# EAGLE library part TEXAS_INSTRUMENTS-LED_DRIVER-TPIC2810_D_16 (library Module_ICs)
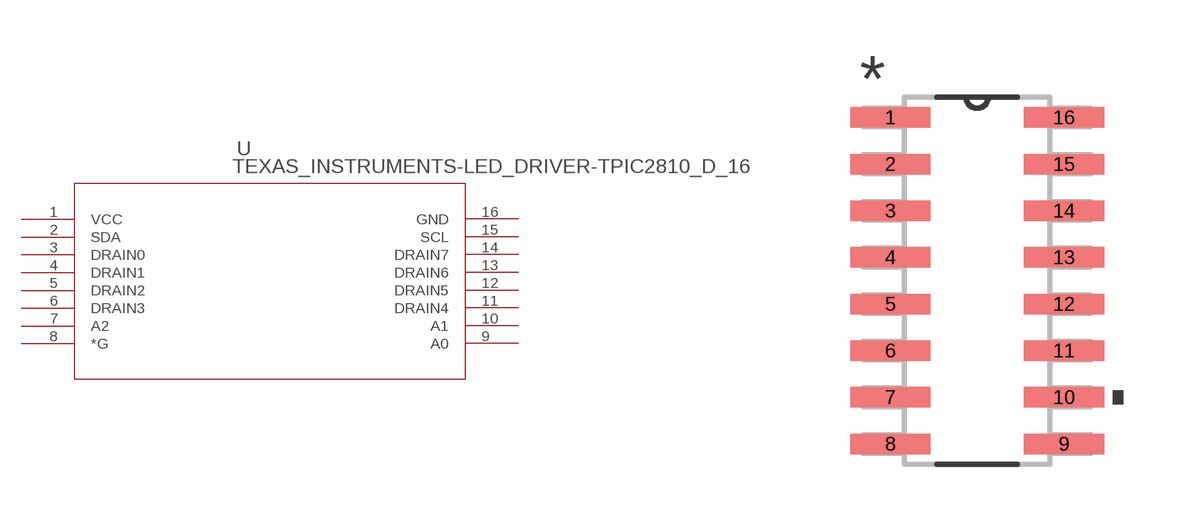
[diagram p12: symbol with the pads of TEXAS_INSTRUMENTS-LED_DRIVER-TPIC2810_D_16; footprint TEXAS_INSTRUMENTS-LED_DRIVER-TPIC2810_D_16]

Designator prefix U

## TEXAS_INSTRUMENTS-LED_DRIVER-TPIC2810_D_16 (DATASHEETURL: httpwww.ti.comlitgpnTPIC2810; FAMILY_NAME: POWERPLUS LOGIC; GENERIC_PART_NUMBER: TPIC2810; INDUSTRY_STD_PKG_TYPE: SOIC; MANUFACTURER: Texas Instruments; MANUFACTURER_PART_NUMBER: tpic2810_d_16; PACKAGE_DESIGNATOR: D; PIN_COUNT: 16; VENDOR: Texas Instruments)  [TEXAS_INSTRUMENTS-LED_DRIVER-TPIC2810_D_16]
1  VCC  pwr
2  SDA
3  DRAIN0  out
4  DRAIN1  out
5  DRAIN2  out
6  DRAIN3  out
7  A2  in
8  *G  in
9  A0  in
10  A1  in
11  DRAIN4  out
12  DRAIN5  out
13  DRAIN6  out
14  DRAIN7  out
15  SCL  in
16  GND  pwr

## Footprint TEXAS_INSTRUMENTS-LED_DRIVER-TPIC2810_D_16 (pad centres in mm)
smd 2.184 x 0.559: 1 -2.362,4.445; 2 -2.362,3.175; 3 -2.362,1.905; 4 -2.362,0.635; 5 -2.362,-0.635; 6 -2.362,-1.905; 7 -2.362,-3.175; 8 -2.362,-4.445; 9 2.362,-4.445; 10 2.362,-3.175; 11 2.362,-1.905; 12 2.362,-0.635; 13 2.362,0.635; 14 2.362,1.905; 15 2.362,3.175; 16 2.362,4.445